# EAGLE library part PT2396 (library mb3_integrated circuits)
Delay PT2396: http://smallbear-electronics.mybigcommerce.com/ic-pt2396/
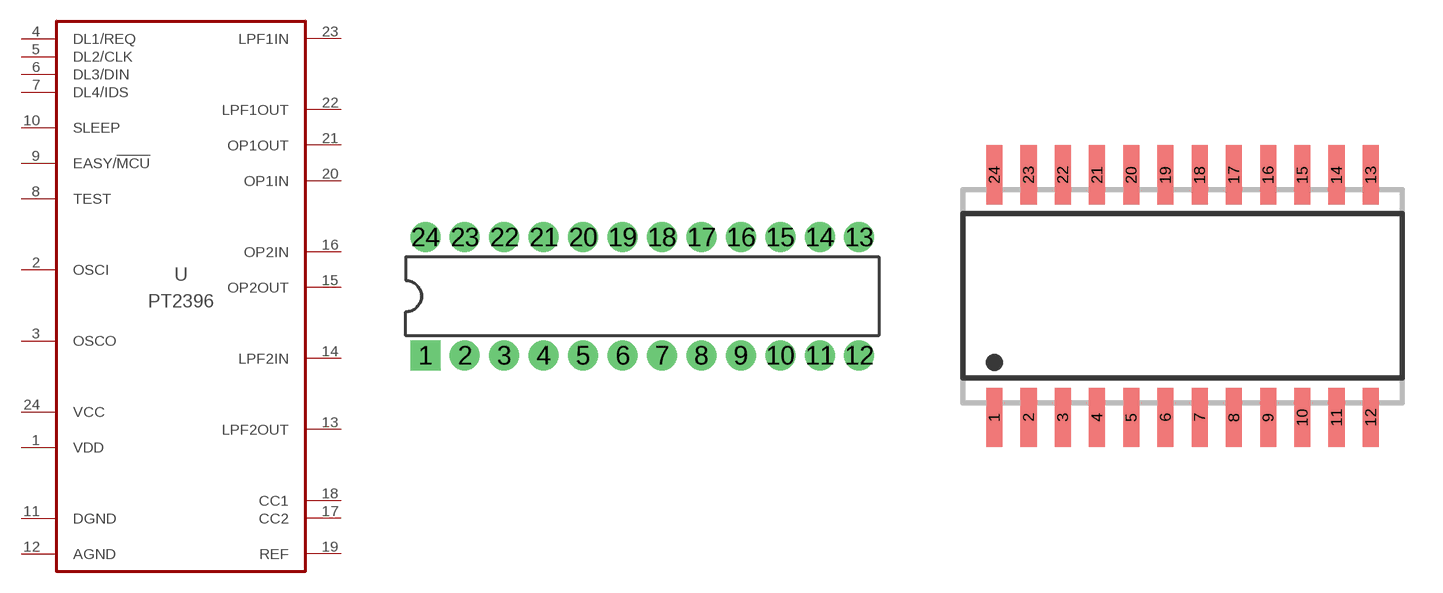
[diagram p22: symbol with the pads of DIP24; footprints DIP24, SOP24]

Designator prefix U

## PT2396_TH  [DIP24]
1  VDD  pwr
2  OSCI  in
3  OSCO
4  DL1/REQ  in
5  DL2/CLK  in
6  DL3/DIN  in
7  DL4/IDS  in
8  TEST  in
9  EASY/!MCU!  in
10  SLEEP  in
11  DGND  pwr
12  AGND  pwr
13  LPF2OUT  out
14  LPF2IN  in
15  OP2OUT  out
16  OP2IN  in
17  CC2  pas
18  CC1  pas
19  REF  pas
20  OP1IN  in
21  OP1OUT  out
22  LPF1OUT  out
23  LPF1IN  in
24  VCC  pwr

## PT2396_SMD  [SOP24]
Pads as for DIP24

## Footprint DIP24 (pad centres in mm)
Dual In Line Package
drill 0.9 pad 1.93 square: 1 -13.97,-3.81
drill 0.9 pad 1.93: 2 -11.43,-3.81; 3 -8.89,-3.81; 4 -6.35,-3.81; 5 -3.81,-3.81; 6 -1.27,-3.81; 7 1.27,-3.81; 8 3.81,-3.81; 9 6.35,-3.81; 10 8.89,-3.81; 11 11.43,-3.81; 12 13.97,-3.81; 13 13.97,3.81; 14 11.43,3.81; 15 8.89,3.81; 16 6.35,3.81; 17 3.81,3.81; 18 1.27,3.81; 19 -1.27,3.81; 20 -3.81,3.81; 21 -6.35,3.81; 22 -8.89,3.81; 23 -11.43,3.81; 24 -13.97,3.81

## Footprint SOP24 (pad centres in mm)
SMALL OUTLINE PACKAGE
smd 0.6 x 2.2: 1 -6.985,-4.5; 2 -5.715,-4.5; 3 -4.445,-4.5; 4 -3.175,-4.5; 5 -1.905,-4.5; 6 -0.635,-4.5; 7 0.635,-4.5; 8 1.905,-4.5; 9 3.175,-4.5; 10 4.445,-4.5; 11 5.715,-4.5; 12 6.985,-4.5; 13 6.985,4.5; 14 5.715,4.5; 15 4.445,4.5; 16 3.175,4.5; 17 1.905,4.5; 18 0.635,4.5; 19 -0.635,4.5; 20 -1.905,4.5; 21 -3.175,4.5; 22 -4.445,4.5; 23 -5.715,4.5; 24 -6.985,4.5